# Altium footprint library Resistor_NTC.PcbLib: 1 footprints
Each footprint in its own frame and in the unit in brackets; x right, y up, seen from the top. Pads: shape width x height; smd on the part's side, far side on the other; paste and mask are expansions set on the pad; w line width, h text height; cw(c..) or ccw(c..) is an arc to the next point about the centre after c.
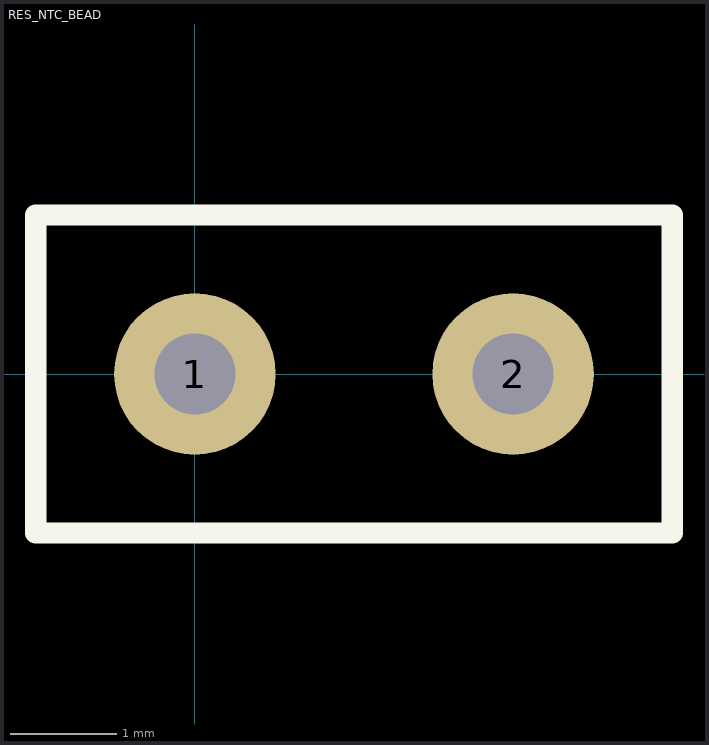
[diagram p0: the footprint, top view; thin cyan lines are the x and y axes]

## RES_NTC_BEAD [mil] "THERMISTOR NTC"
pads (2):
  round 60 hole 30: 1(0,0) 2(118.11,0)
Top Overlay:
  lines w7.87: -59.06,-59.06 177.17,-59.06 177.17,59.06 -59.06,59.06 -59.06,0 -59.06,-59.06